# EAGLE library part AP63300 (library dword1511-pmic-dcdc)
3A, 32V, 500KHz Low-IQ Synchronous Buck Converter with PFM and FSS
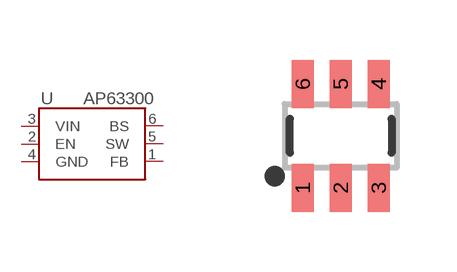
[diagram p32: symbol with the pads of SOT-23-6; footprint SOT-23-6]

Designator prefix U

## AP63300WU  [SOT-23-6]
1  FB  in
2  EN  in
3  VIN  pwr
4  GND  pwr
5  SW  out
6  BS  out

## Footprint SOT-23-6 (pad centres in mm)
smd 0.55 x 1.2: 1 -0.95,-1.3; 2 0,-1.3; 3 0.95,-1.3; 4 0.95,1.3; 5 0,1.3; 6 -0.95,1.3